# Altium schematic symbol library EEE2AA220P.SchLib: 1 symbol
Pins are listed as number, name and electrical type; pins without a type are passive.

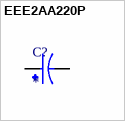
[diagram p0: symbol EEE2AA220P]

## EEE2AA220P
designator C?
Capacitor; Alum Electrolytic; Cap 22 uF; Tol 20%; Vol-Rtg 100 VDC; SMT; 10x10.5; TR; MF: Panasonic; MP: EEE-2AA220P; Availability: In Stock; Price: None; SnapEDA_Link: https://www.snapeda.com/parts/EEE-2AA220P/Panasonic/view-part/865126/?ref=snap; Value: *; Check_prices: https://www.snapeda.com/parts/EEE-2AA220P/Panasonic/view-part/865126/?ref=eda; Package: RADIAL-2 Panasonic
footprint CAP_EEE2AA220P
pins: 1, 2